# Altium footprint library LM2576.PcbLib: 1 footprints
Each footprint in its own frame and in the unit in brackets; x right, y up, seen from the top. Pads: shape width x height; smd on the part's side, far side on the other; paste and mask are expansions set on the pad; w line width, h text height; cw(c..) or ccw(c..) is an arc to the next point about the centre after c.
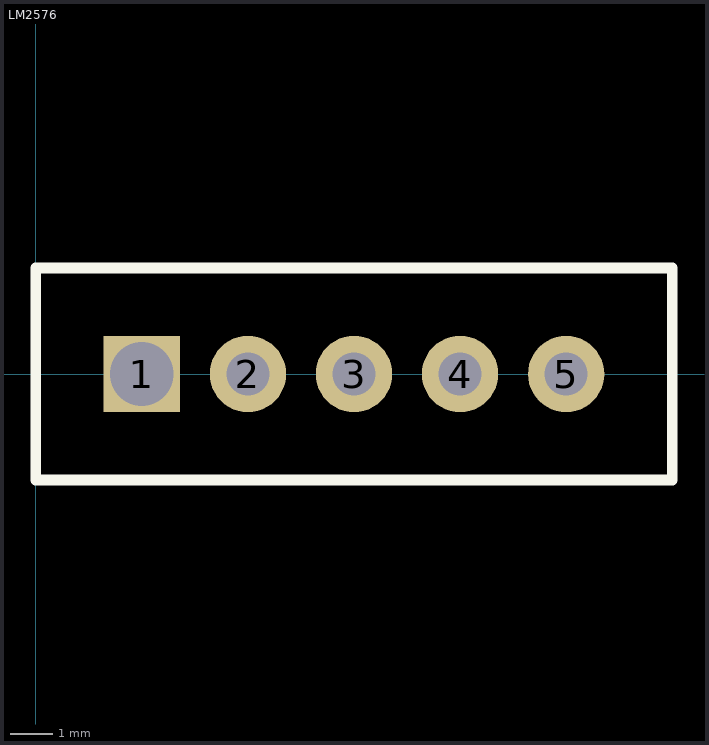
[diagram p0: the footprint, top view; thin cyan lines are the x and y axes]

## LM2576 [mm]
pads (5):
  rect 1.8x1.8 hole 1.5: 1(2.5,0)
  round 1.8 hole 1.016: 2(5,0) 3(7.5,0) 4(10,0) 5(12.5,0)
Top Overlay:
  lines w0.254: 0,-2.5 15,-2.5 15,2.5 0,2.5 0,-2.5